# EAGLE library part BQ51013BRHLR (library BQ51013BRHLR)
Check prices <https://pricing.snapeda.com/parts/BQ51013BRHLR/Texas%20Instruments/view-part?ref=eda>
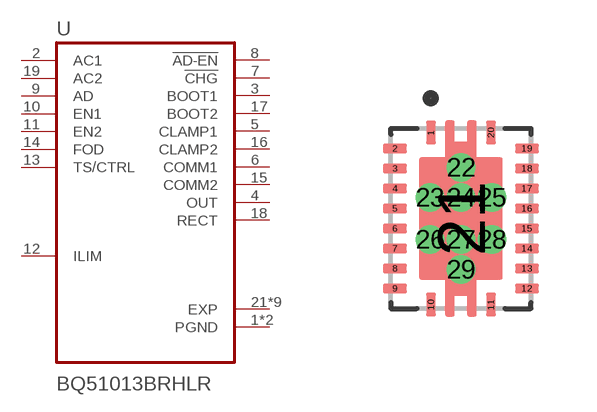
[diagram p0: symbol with the pads of IC_MSP430FR2522IRHLR; footprint IC_MSP430FR2522IRHLR]

Designator prefix U

## BQ51013BRHLR (Availability: Good; Description: WPC 1.1 Compatible Fully integrated Wireless power Receiver IC 20-VQFN 0 to 125; MF: Texas Instruments; MP: BQ51013BRHLR; Package: VQFN-20 Texas Instruments; Price: None; Purchase-URL: https://pricing.snapeda.com/search/part/BQ51013BRHLR/?ref=eda)  [IC_MSP430FR2522IRHLR]
1  PGND  pwr
2  AC1  in
3  BOOT1  out
4  OUT  out
5  CLAMP1  out
6  COMM1  out
7  !CHG  out
8  !AD-EN  out
9  AD  in
10  EN1  in
11  EN2  in
12  ILIM
13  TS/CTRL  in
14  FOD  in
15  COMM2  out
16  CLAMP2  out
17  BOOT2  out
18  RECT  out
19  AC2  in
20  PGND  pwr
21  EXP  pwr
22  EXP  pwr
23  EXP  pwr
24  EXP  pwr
25  EXP  pwr
26  EXP  pwr
27  EXP  pwr
28  EXP  pwr
29  EXP  pwr

## Footprint IC_MSP430FR2522IRHLR (pad centres in mm)
smd 0.24 x 0.6: 1 -0.75,2.15; 10 -0.75,-2.15; 11 0.75,-2.15; 20 0.75,2.15
smd 0.6 x 0.24: 2 -1.65,1.75; 3 -1.65,1.25; 4 -1.65,0.75; 5 -1.65,0.25; 6 -1.65,-0.25; 7 -1.65,-0.75; 8 -1.65,-1.25; 9 -1.65,-1.75; 12 1.65,-1.75; 13 1.65,-1.25; 14 1.65,-0.75; 15 1.65,-0.25; 16 1.65,0.25; 17 1.65,0.75; 18 1.65,1.25; 19 1.65,1.75
smd 2.05 x 3.05: 21 0,0
drill 0.2 pad 0.3: 22 0,1.275; 23 -0.775,0.525; 24 0,0.525; 25 0.775,0.525; 26 -0.775,-0.525; 27 0,-0.525; 28 0.775,-0.525; 29 0,-1.275